# Altium footprint library 613020243121.PcbLib: 1 footprints
Each footprint in its own frame and in the unit in brackets; x right, y up, seen from the top. Pads: shape width x height; smd on the part's side, far side on the other; paste and mask are expansions set on the pad; w line width, h text height; cw(c..) or ccw(c..) is an arc to the next point about the centre after c.
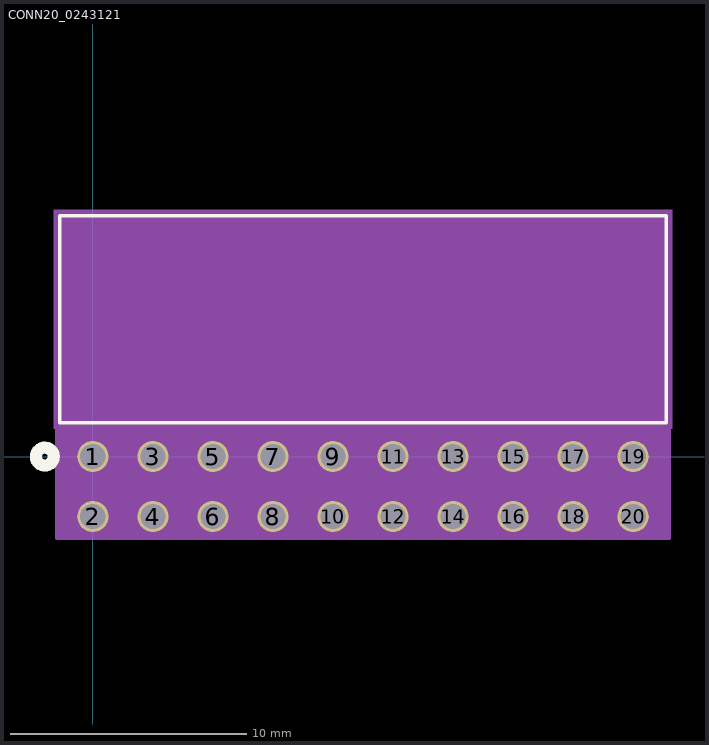
[diagram p0: the footprint, top view; thin cyan lines are the x and y axes]

## CONN20_0243121 [mil]
pads (20):
  round 52 hole 42 mask+0: 1(0,0) 2(0,-100) 3(100,0) 4(100,-100) 5(200,0) 6(200,-100) 7(300,0) 8(300,-100) 9(400,0) 10(400,-100) 11(500,0) 12(500,-100) 13(600,0) 14(600,-100) 15(700,0) 16(700,-100) 17(800,0) 18(800,-100) 19(900,0) 20(900,-100)
Top Overlay:
  circle w20: c-80,0 r15
  lines w6: -55,56.06 955,56.06 955,401.06 -55,401.06 -55,56.06
Bottom Overlay:
  circle w20: c-80,0 r15
Mechanical 5:
  region: -65,411.06 965,411.06 965,46.06 -65,46.06
Mechanical 13:
  circle w20: c0,75 r15
  lines w1: -50,61.06 950,61.06 950,396.06 -50,396.06 -50,61.06
Mechanical 15:
  region: 960,406.06 -60,406.06 -60,-136 960,-136
  lines w6: -60,-136 -60,406.06 960,406.06 960,-136 -60,-136
3D body: height 10, standoff 0, extent 0,0 10,10